# Altium schematic symbol library PIC16F1827.Schlib: 1 symbol
Pins are listed as number, name and electrical type; pins without a type are passive.

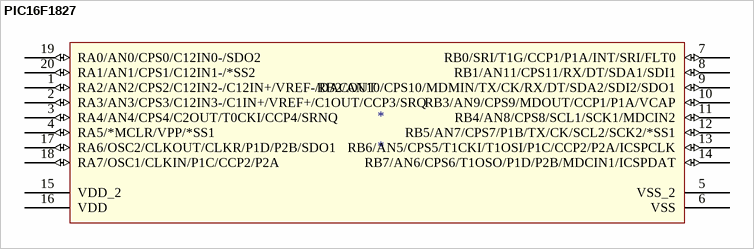
[diagram p0: symbol PIC16F1827]

## PIC16F1827
designator *
pins: 1 RA2/AN2/CPS2/C12IN2-/C12IN+/VREF-/DACOUT (io), 2 RA3/AN3/CPS3/C12IN3-/C1IN+/VREF+/C1OUT/CCP3/SRQ (io), 3 RA4/AN4/CPS4/C2OUT/T0CKI/CCP4/SRNQ (io), 4 RA5/*MCLR/VPP/*SS1 (io), 5 VSS_2 (power), 6 VSS (power), 7 RB0/SRI/T1G/CCP1/P1A/INT/SRI/FLT0 (io), 8 RB1/AN11/CPS11/RX/DT/SDA1/SDI1 (io), 9 RB2/AN10/CPS10/MDMIN/TX/CK/RX/DT/SDA2/SDI2/SDO1 (io), 10 RB3/AN9/CPS9/MDOUT/CCP1/P1A/VCAP (io), 11 RB4/AN8/CPS8/SCL1/SCK1/MDCIN2 (io), 12 RB5/AN7/CPS7/P1B/TX/CK/SCL2/SCK2/*SS1 (io), 13 RB6/AN5/CPS5/T1CKI/T1OSI/P1C/CCP2/P2A/ICSPCLK (io), 14 RB7/AN6/CPS6/T1OSO/P1D/P2B/MDCIN1/ICSPDAT (io), 15 VDD_2 (power), 16 VDD (power), 17 RA6/OSC2/CLKOUT/CLKR/P1D/P2B/SDO1 (io), 18 RA7/OSC1/CLKIN/P1C/CCP2/P2A (io), 19 RA0/AN0/CPS0/C12IN0-/SDO2 (io), 20 RA1/AN1/CPS1/C12IN1-/*SS2 (io)